# Altium schematic symbol library CONSMA001-G.SchLib: 1 symbol
Pins are listed as number, name and electrical type; pins without a type are passive.

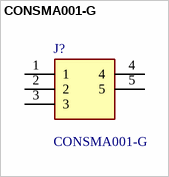
[diagram p0: symbol CONSMA001-G]

## CONSMA001-G
designator J?
SMA Connector, Jack, 50 ohm, Threaded, 12.4 GHz, 1 Position, Printed Circuit Board, Board Mount, -65  165 C [-85  329 F], Solder, Straight, Brass; Manufacturer_Name: TE Connectivity; Geometry.Height: 9.79mm; Mouser Part Number: 712-CONSMA001-G; Mouser Price/Stock: https://www.mouser.co.uk/ProductDetail/TE-Connectivity-Linx-Technologies/CONSMA001-G?qs=W0r2Z67sYII1%2F%252BEN0FzKeQ%3D%3D; Manufacturer_Part_Number: CONSMA001-G; Datasheet Link: https://www.te.com/en/product-CONSMA001-G.html
footprint CONSMA001G
pins: 1, 2, 3, 4, 5